# EAGLE library part TVS_ARRAY_* (library LM555-Jessica-Ly)
TVS Diode Array Datasheet <https://www.mouser.com/datasheet/2/427/vesd05a5-06gtovesd26a5-06g-1768003.pdf>
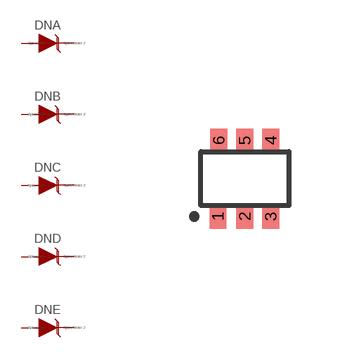
[diagram p7: symbol with the pads of SOT-363; footprint SOT-363]

Designator prefix DN; gates A=DIODE_TVS_UNIDIRECTIONAL B=DIODE_TVS_UNIDIRECTIONAL_SINGLE_ENDED C=DIODE_TVS_UNIDIRECTIONAL_SINGLE_ENDED D=DIODE_TVS_UNIDIRECTIONAL_SINGLE_ENDED E=DIODE_TVS_UNIDIRECTIONAL_SINGLE_ENDED

## TVS_ARRAY_16V (DKPN: 112-VESD16A5-06G-G3-08CT-ND; MANUFACTURER: Vishay General Semiconductor - Diodes Division; MOPN: 78-VESD16A5-06G-G308; MPN: VESD16A5-06G-G3-08; VOLTAGE: 16V), TVS_ARRAY_5V (DKPN: 112-VESD05A5-06G-G3-08CT-ND; MANUFACTURER: Vishay General Semiconductor - Diodes Division; MOPN: 78-VESD05A5-06G-G308; MPN: VESD05A5-06G-G3-08; VOLTAGE: 5V)  [SOT-363]
1  A:C  pas
2  A:A  pas
3  B:C  pas
4  C:C  pas
5  D:C  pas
6  E:C  pas

## Footprint SOT-363 (pad centres in mm)
SOT-363 Datasheet <https://www.diodes.com/assets/Package-Files/SOT363.pdf>
smd 0.42 x 0.6: 1 -0.673,-0.95; 2 0,-0.95; 3 0.65,-0.95; 4 0.65,0.95; 5 0,0.95; 6 -0.65,0.95